# Altium footprint library CurlingStonePCBLibrary.PcbLib: 13 footprints
Each footprint in its own frame and in the unit in brackets; x right, y up, seen from the top. Pads: shape width x height; smd on the part's side, far side on the other; paste and mask are expansions set on the pad; w line width, h text height; cw(c..) or ccw(c..) is an arc to the next point about the centre after c.
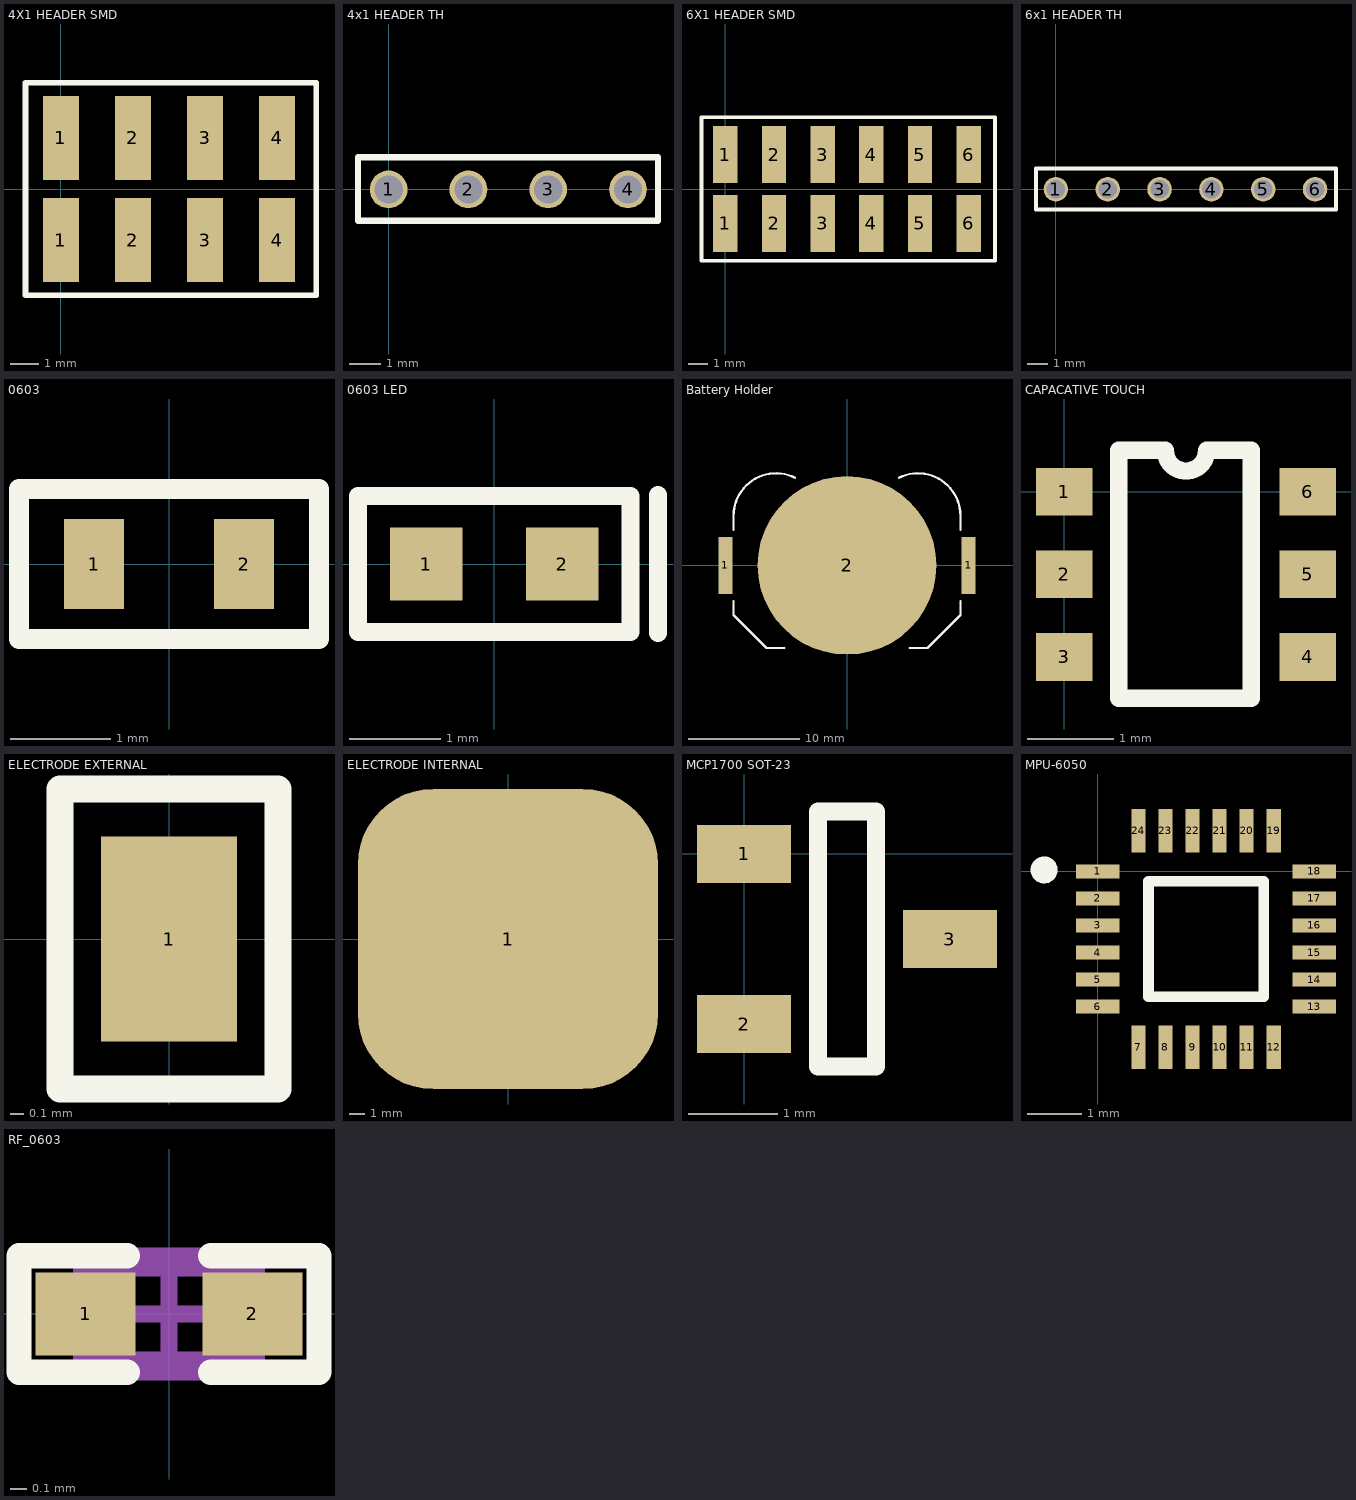
[diagram p0: the footprints below, top view; thin cyan lines are the x and y axes]

## 4X1 HEADER SMD [mm]
pads (8):
  rect 1.27x2.96 smd: 1(0,-1.8) 1(0,1.8) 2(2.54,-1.8) 2(2.54,1.8) 3(5.08,-1.8) 3(5.08,1.8) 4(7.62,-1.8) 4(7.62,1.8)
Top Overlay:
  lines w0.198: -1.25,-3.75 -1.25,3.75 9,3.75 9,-3.75 -1.25,-3.75
3D body "878980466.stp": height 9.66, standoff 0.01, extent -1.08,-2.4 9.08,2.4

## 4x1 HEADER TH [mm]
pads (4):
  round 1.2 hole 0.9: 1(0,0) 2(2.54,0) 3(5.08,0) 4(7.62,0)
Top Overlay:
  lines w0.2: -0.975,-1 -0.975,1.025 8.575,1.025 8.575,-1 -0.975,-1
3D body "5-146274-4--3DModel-STEP-1.STEP": height 10.38, standoff -3.16, extent -1.102,-1.168 8.652,1.168

## 6X1 HEADER SMD [mm]
pads (12):
  rect 1.27x2.96 smd: 1(0,-1.8) 1(0,1.8) 2(2.54,-1.8) 2(2.54,1.8) 3(5.08,-1.8) 3(5.08,1.8) 4(7.62,-1.8) 4(7.62,1.8) 5(10.16,-1.8) 5(10.16,1.8) 6(12.7,-1.8) 6(12.7,1.8)
Top Overlay:
  lines w0.198: -1.25,-3.75 -1.25,3.75 14.075,3.75 14.075,-3.75 -1.25,-3.75
3D body "878980466.stp": height 9.66, standoff 0.01, extent 1.34,-2.375 11.5,2.425

## 6x1 HEADER TH [mm]
pads (6):
  round 1.2 hole 0.9: 1(0,0) 2(2.54,0) 3(5.08,0) 4(7.62,0) 5(10.16,0) 6(12.7,0)
Top Overlay:
  lines w0.2: -0.975,-1 -0.975,1.025 13.725,1.025 13.725,-1 -0.975,-1
3D body "5-146274-4--3DModel-STEP-1.STEP": height 10.38, standoff -3.16, extent 1.496,-1.193 11.25,1.143

## 0603 [mm]
pads (2):
  rect 0.6x0.9 smd: 1(-0.75,0) 2(0.75,0)
Top Overlay:
  lines w0.2: -1.5,-0.75 1.5,-0.75 1.5,0.75 -1.5,0.75 -1.5,-0.75
3D body "0603B222K500CT--3DModel-STEP-56544.STEP": height 0.81, standoff 0.01, extent -0.8,-0.425 0.8,0.445

## 0603 LED [mm]
pads (2):
  rect 0.8x0.8 smd: 1(-0.75,0) 2(0.75,0)
Top Overlay:
  lines w0.198: 1.803,-0.762 1.803,0.762
  lines w0.2: -1.5,-0.75 -1.5,0.75 1.5,0.75 1.5,-0.75 -1.5,-0.75
3D body "LTST-C191KGKT--3DModel-STEP-56544.STEP": height 0.56, standoff 0.01, extent -0.8,-0.4 0.8,0.4

## Battery Holder [mm]
pads (3):
  rect 1.27x5.08 smd: 1(-10.897,0) 1(10.897,0)
  round 16 smd: 2(0,0)
Top Overlay:
  lines w0.198: -10.16,-3.175 -10.16,-4.445 -7.214,-7.391 -5.614,-7.391 ; -10.16,3.175 -10.16,4.445 cw(c-6.35,4.445) -4.646,7.853 ; 4.646,7.853 cw(c6.35,4.445) 10.16,4.445 10.16,3.175 ; 5.613,-7.391 7.214,-7.391 10.16,-4.445 10.16,-3.175
3D body "Keystone3034TR.step": height 4.1, standoff 0, extent -11.575,-7.475 11.525,8.625

## CAPACATIVE TOUCH [mm]
pads (6):
  rect 0.65x0.55 smd: 1(0,0) 2(0,-0.95) 3(0,-1.9) 4(2.8,-1.9) 5(2.8,-0.95) 6(2.8,0)
Top Overlay:
  lines w0.2: 0.625,-2.375 2.15,-2.375 2.15,0.475 1.637,0.475 cw(c1.4,0.475) 1.162,0.475 0.625,0.475 0.625,-2.375
3D body "6ST1_ATM.step": height 1.48, standoff 0, extent -0.099,-2.449 2.899,0.549

## ELECTRODE EXTERNAL [mm]
pads (1):
  rect 1x1.5 smd: 1(0,0)
Top Overlay:
  lines w0.198: -0.8,-1.1 0.8,-1.1 0.8,1.1 -0.8,1.1 -0.8,-1.1

## ELECTRODE INTERNAL [mm]
pads (1):
  rrect50% 20x20 smd: 1(0,0)

## MCP1700 SOT-23 [mm]
pads (3):
  rect 1.05x0.65 smd: 1(0,0) 2(0,-1.9) 3(2.3,-0.95)
Top Overlay:
  lines w0.2: 0.913,0.475 1.475,0.475 1.475,-2.375 0.825,-2.375 0.825,0.475 1.388,0.475
3D body "SOT-23_MC_MCH.step": height 1.12, standoff 0, extent -0.17,-2.475 2.47,0.575

## MPU-6050 [mm]
pads (24):
  rect 0.8x0.26 smd: 1(0,0) 2(0,-0.5) 3(0,-1) 4(0,-1.5) 5(0,-2) 6(0,-2.5) 13(4,-2.5) 14(4,-2) 15(4,-1.5) 16(4,-1) 17(4,-0.5) 18(4,0)
  rect 0.26x0.8 smd: 7(0.75,-3.25) 8(1.25,-3.25) 9(1.75,-3.25) 10(2.25,-3.25) 11(2.75,-3.25) 12(3.25,-3.25) 19(3.25,0.75) 20(2.75,0.75) 21(2.25,0.75) 22(1.75,0.75) 23(1.25,0.75) 24(0.75,0.75)
Top Overlay:
  circle w0.198: c-0.991,0.025 r0.15
  rectangle: -1.125,-0.125 -0.875,0.15
  lines w0.2: 0.935,-2.315 3.065,-2.315 3.065,-0.185 0.935,-0.185 0.935,-2.315
3D body "MPU-6050--3DModel-STEP-1.STEP": height 0.94, standoff -0.01, extent 0,-3.25 4,0.75

## RF_0603 [mm]
pads (2):
  rect 0.6x0.5 smd: 1(-0.5,0) 2(0.5,0)
Top Overlay:
  lines w0.152: -0.25,-0.35 -0.9,-0.35 -0.9,0.35 -0.25,0.35 ; 0.25,-0.35 0.9,-0.35 0.9,0.35 0.25,0.35
Mechanical 7:
  lines w0.1: -0.525,-0.275 0.525,-0.275 0.525,0.275 -0.525,0.275 -0.525,-0.275
  text ".Designator" at -0.432,-0.152 h0.3
Mechanical 15:
  lines w0.1: -0.275,0 0.275,0 ; 0,-0.275 0,0.275 ; -0.9,-0.35 -0.9,0.35 0.9,0.35 0.9,-0.35 -0.9,-0.35
3D body "User Library-0402(1005M) Cap.step": height 0.5, standoff -0.01, extent -0.508,-0.254 0.508,0.254